# EAGLE library part AD9834 (library thomas_library)
The AD9834 is a 3.3v/5v 75MHz DDS from Analog Devices
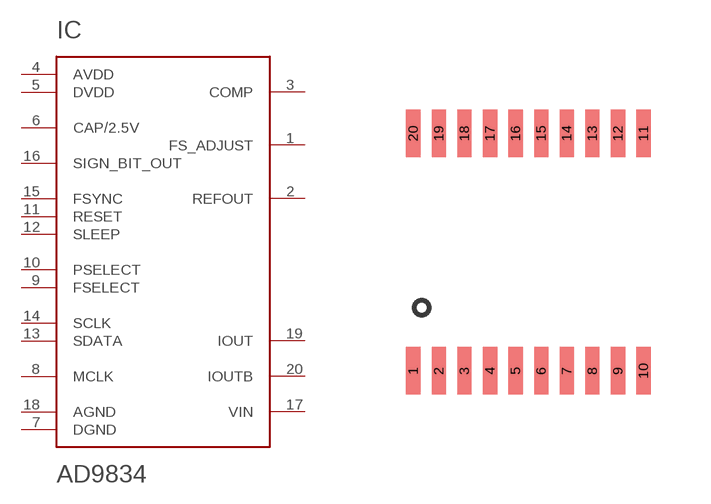
[diagram p13: symbol with the pads of TSSOP_20; footprint TSSOP_20]

Designator prefix IC

## AD9834  [TSSOP_20]
1  FS_ADJUST
2  REFOUT
3  COMP
4  AVDD
5  DVDD
6  CAP/2.5V
7  DGND
8  MCLK
9  FSELECT
10  PSELECT
11  RESET
12  SLEEP
13  SDATA
14  SCLK
15  FSYNC
16  SIGN_BIT_OUT
17  VIN
18  AGND
19  IOUT
20  IOUTB

## Footprint TSSOP_20 (pad centres in mm)
TSSOP-20 (RU-20) from Analog Devices, 0.36x1.19mm pads, 0.64mm pin spacing, 5.94mm diameter
smd 0.356 x 1.194: 1 -2.88,-2.972; 2 -2.24,-2.972; 3 -1.6,-2.972; 4 -0.96,-2.972; 5 -0.32,-2.972; 6 0.32,-2.972; 7 0.96,-2.972; 8 1.6,-2.972; 9 2.24,-2.972; 10 2.88,-2.972; 11 2.88,2.972; 12 2.24,2.972; 13 1.6,2.972; 14 0.96,2.972; 15 0.32,2.972; 16 -0.32,2.972; 17 -0.96,2.972; 18 -1.6,2.972; 19 -2.24,2.972; 20 -2.88,2.972